# Altium footprint library TE.PCBLIB: 4 footprints
Each footprint in its own frame and in the unit in brackets; x right, y up, seen from the top. Pads: shape width x height; smd on the part's side, far side on the other; paste and mask are expansions set on the pad; w line width, h text height; cw(c..) or ccw(c..) is an arc to the next point about the centre after c.
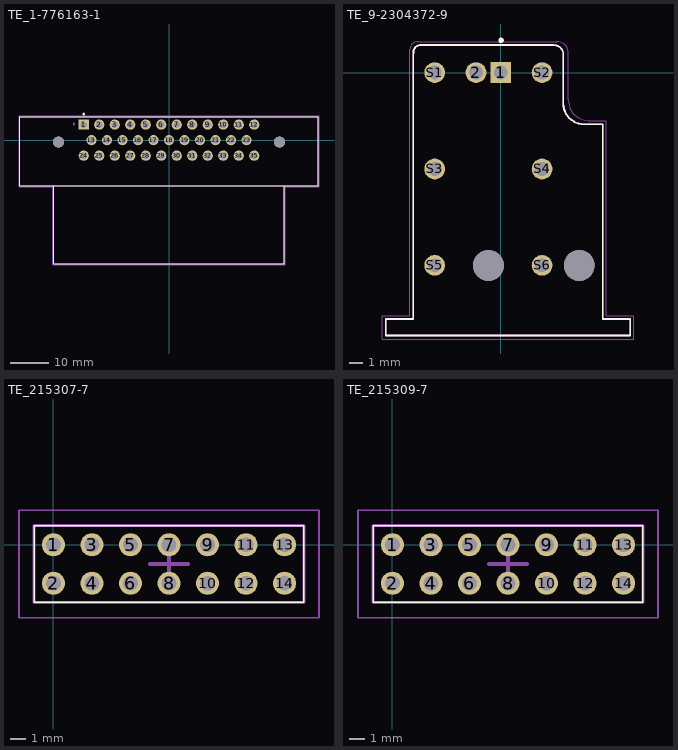
[diagram p0: the footprints below, top view; thin cyan lines are the x and y axes]

## TE_1-776163-1 [mm]
pads (37):
  rect 2.625x2.625 hole 1.75: 1(-22,4)
  round 2.625 hole 1.75: 2(-18,4) 3(-14,4) 4(-10,4) 5(-6,4) 6(-2,4) 7(2,4) 8(6,4) 9(10,4) 10(14,4) 11(18,4) 12(22,4) 13(-20,0) 14(-16,0) 15(-12,0) 16(-8,0) 17(-4,0) 18(0,0) 19(4,0) 20(8,0) 21(12,0) 22(16,0) 23(20,0) 24(-22,-4) 25(-18,-4) 26(-14,-4) 27(-10,-4) 28(-6,-4) 29(-2,-4) 30(2,-4) 31(6,-4) 32(10,-4) 33(14,-4) 34(18,-4) 35(22,-4)
  round 2.85 hole 2.85 unplated: ""(-28.5,-0.5) ""(28.5,-0.5)
Top Overlay:
  circle w0.2: c-22,6.7 r0.2
  lines w0.127: -29.7,-11.8 29.7,-11.8 ; -29.7,-11.8 -38.45,-11.8 -38.45,6.05 38.45,6.05 38.45,-11.8 29.7,-11.8 ; -29.7,-11.8 -29.7,-31.85 29.7,-31.85 29.7,-11.8
Top Assembly:
  circle w0.2: c-24.54,4.16 r0.2
  lines w0.127: -29.7,-11.8 29.7,-11.8 ; -29.7,-11.8 -38.45,-11.8 -38.45,6.05 38.45,6.05 38.45,-11.8 29.7,-11.8 ; -29.7,-11.8 -29.7,-31.85 29.7,-31.85 29.7,-11.8
Top Courtyard:
  lines w0.05: -38.7,-12.05 -29.95,-12.05 -29.95,-32.1 29.95,-32.1 29.95,-12.05 38.7,-12.05 38.7,6.3 -38.7,6.3 -38.7,-12.05
Top Designator:
  text ".Designator" at -0.5,-9.012 h1
3D body "c-1-776163-1-t-3d.stp": height 27.77, standoff -4.33, extent -38.45,-31.85 38.45,5.95

## TE_9-2304372-9 [mm]
pads (10):
  rect 1.508x1.508 hole 1: 1(0,0)
  round 1.508 hole 1: 2(-1.8,0) S1(-4.8,0) S2(3,0) S3(-4.8,-7) S4(3,-7) S5(-4.8,-14) S6(3,-14)
  round 2.25 hole 2.25 unplated: ""(-0.9,-14) ""(5.7,-14)
Top Overlay:
  circle w0.2: c0.021,2.34 r0.1
  lines w0.127: -6.35,1.429 -6.35,-17.9 -8.35,-17.9 -8.35,-19.1 9.4,-19.1 9.4,-17.9 7.4,-17.9 7.4,-3.75 6.045,-3.75 cw(c6.045,-2.25) 4.545,-2.25 4.545,1.332 ccw(c3.865,1.32) 3.853,2 ; -6.345,1.429 cw(c-5.82,1.475) -5.866,2 ; -5.865,2 3.855,2
Top Assembly:
  lines w0.127: -6.35,1.429 -6.35,-17.9 -8.35,-17.9 -8.35,-19.1 9.4,-19.1 9.4,-17.9 7.4,-17.9 7.4,-3.75 6.045,-3.75 cw(c6.045,-2.25) 4.545,-2.25 4.545,1.332 ccw(c3.865,1.32) 3.853,2 ; -6.345,1.429 cw(c-5.82,1.475) -5.866,2 ; -5.865,2 3.855,2
Top Courtyard:
  lines w0.05: -6.027,2.25 ccw(c-6.027,1.677) -6.6,1.677 -6.6,-17.65 -8.6,-17.65 -8.6,-19.35 9.65,-19.35 9.65,-17.65 7.65,-17.65 7.65,-3.48 6.315,-3.48 cw(c6.365,-2.03) 4.915,-1.979 4.915,1.43 ccw(c4.08,1.415) 4.065,2.25 -6.025,2.25
Top Designator:
  text ".Designator" at -0.9,-7.412 h1
3D body "c-9-2304372-9-a-3d.stp": height 13.1, standoff -3.4, extent -8.375,-19.15 9.375,1.95

## TE_215307-7 [mil]
pads (14):
  round 60 hole 38.58: 1(0,0) 2(0,-100) 3(100,0) 4(100,-100) 5(200,0) 6(200,-100) 7(300,0) 8(300,-100) 9(400,0) 10(400,-100) 11(500,0) 12(500,-100) 13(600,0) 14(600,-100)
Top Overlay:
  lines w3.94: -50,-149.61 650,-149.61 650,49.61 -50,49.61 -50,-149.61
Top Assembly:
  lines w7.87: -50,-149.61 650,-149.61 650,49.61 -50,49.61 -50,-149.61
Top Courtyard:
  lines w3.94: -89.37,-188.98 689.37,-188.98 689.37,88.98 -89.37,88.98 -89.37,-188.98
Top Designator:
  text ".Designator" at 212.6,105.82 h39.37
Top Component Center:
  lines w10: 250,-50 350,-50 ; 300,-100 300,0
3D body "215307-7.stp": height 275.59, standoff -118.11, extent -50,-149.61 650,49.61

## TE_215309-7 [mil]
pads (14):
  round 60 hole 38.58: 1(0,0) 2(0,-100) 3(100,0) 4(100,-100) 5(200,0) 6(200,-100) 7(300,0) 8(300,-100) 9(400,0) 10(400,-100) 11(500,0) 12(500,-100) 13(600,0) 14(600,-100)
Top Overlay:
  lines w3.94: -50,-149.61 -50,49.61 650,49.61 650,-149.61 -50,-149.61
Top Assembly:
  lines w7.87: -50,-149.61 -50,49.61 650,49.61 650,-149.61 -50,-149.61
Top Courtyard:
  lines w3.94: -89.37,-188.98 -89.37,88.98 689.37,88.98 689.37,-188.98 -89.37,-188.98
Top Designator:
  text ".Designator" at 212.6,105.82 h39.37
Top Component Center:
  lines w10: 250,-50 350,-50 ; 300,-100 300,0
3D body "215309-7.stp": height 334.65, standoff -118.11, extent -50,-149.61 650,49.61